# EAGLE library part TPS22960 (library Hoektronics)
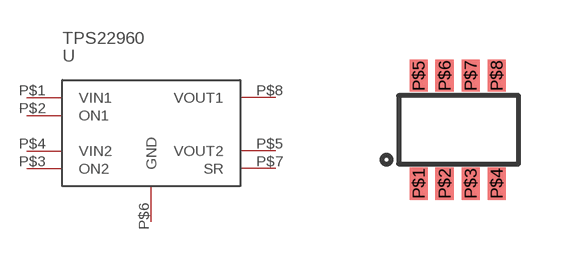
[diagram p6: symbol with the pads of R-PDSO-G8; footprint R-PDSO-G8]

Designator prefix -

## TPS22960  [R-PDSO-G8]
P$1  VIN1
P$2  ON1
P$3  ON2
P$4  VIN2
P$5  VOUT2
P$6  GND
P$7  SR
P$8  VOUT1

## Footprint R-PDSO-G8 (pad centres in mm)
smd 0.45 x 0.8: P$1 0.5,-0.5; P$2 1.15,-0.5; P$3 1.8,-0.5; P$4 2.45,-0.5; P$5 0.5,2.2; P$6 1.15,2.2; P$7 1.8,2.2; P$8 2.45,2.2